# EAGLE library part MTA11 (library con-amp)
AMP connector
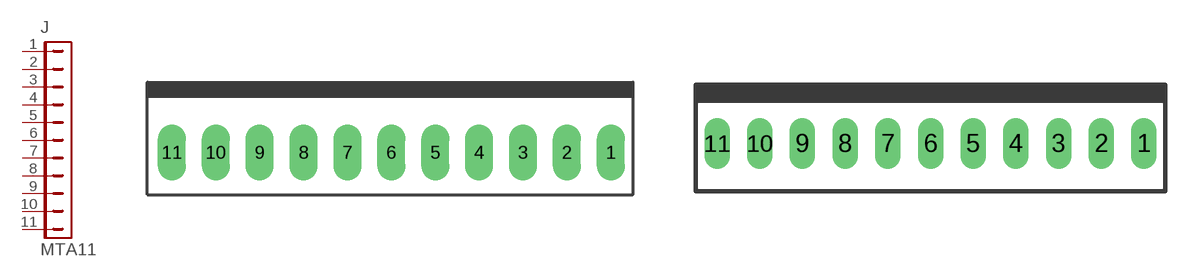
[diagram p116: symbol with the pads of MTA11-156; footprints MTA11-156, MTA11-100]

Designator prefix J

## MTA11-156  [MTA11-156]
1  1  pas
2  2  pas
3  3  pas
4  4  pas
5  5  pas
6  6  pas
7  7  pas
8  8  pas
9  9  pas
10  10  pas
11  11  pas

## MTA11-100  [MTA11-100]
Pads as for MTA11-156

## Footprint MTA11-156 (pad centres in mm)
MTA Connector - 0.156" pitch
drill 1.676 long: 1 19.812,0; 2 15.85,0; 3 11.887,0; 4 7.925,0; 5 3.962,0; 6 0,0; 7 -3.962,0; 8 -7.925,0; 9 -11.887,0; 10 -15.85,0; 11 -19.812,0

## Footprint MTA11-100 (pad centres in mm)
MTA Connector - 0.100" pitch
drill 1.016 long: 1 12.7,0; 2 10.16,0; 3 7.62,0; 4 5.08,0; 5 2.54,0; 6 0,0; 7 -2.54,0; 8 -5.08,0; 9 -7.62,0; 10 -10.16,0; 11 -12.7,0